# Altium footprint library PCB - LEADLESS - MISC - MURATA LXRW-0Y.PCBLIB: 1 footprints
Each footprint in its own frame and in the unit in brackets; x right, y up, seen from the top. Pads: shape width x height; smd on the part's side, far side on the other; paste and mask are expansions set on the pad; w line width, h text height; cw(c..) or ccw(c..) is an arc to the next point about the centre after c.
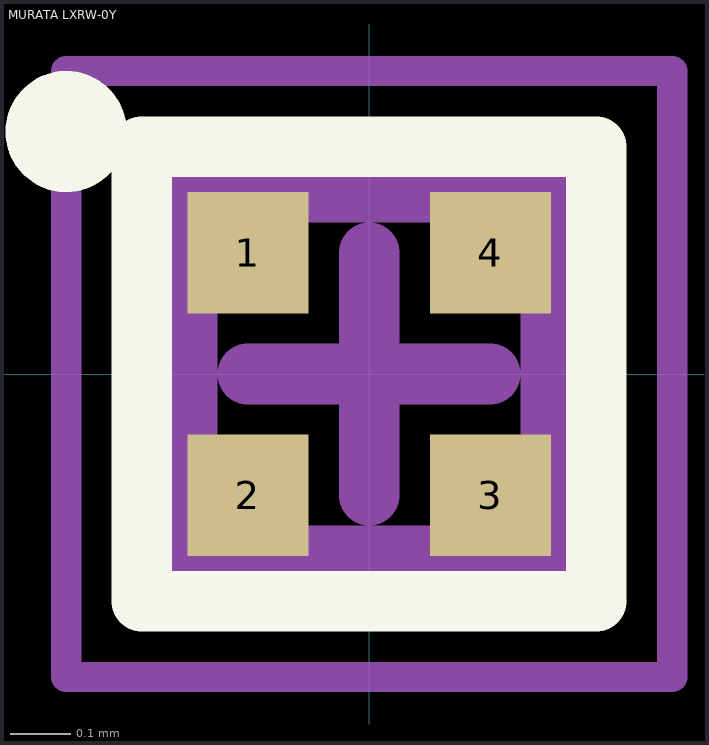
[diagram p0: the footprint, top view; thin cyan lines are the x and y axes]

## MURATA LXRW-0Y [mm] "LGA, 12-Leads, Body 2.00x2.20mm, Pitch 0.50mm, IPC Medium Density"
height 1.18
pads (4):
  rect 0.2x0.2 smd mask+0: 1(-0.2,0.2) 2(-0.2,-0.2) 3(0.2,-0.2) 4(0.2,0.2)
Top Overlay:
  circle w0.1: c-0.5,0.4 r0.05
  lines w0.1: -0.375,-0.375 0.375,-0.375 0.375,0.375 -0.375,0.375 -0.375,-0.375
Mechanical 13:
  lines w0.1: -0.3,-0.3 0.3,-0.3 0.3,0.3 -0.3,0.3 -0.3,-0.3
Mechanical 15:
  lines w0.05: -0.5,-0.5 0.5,-0.5 0.5,0.5 -0.5,0.5 -0.5,-0.5
  lines w0.1: -0.2,0 0.2,0 ; 0,-0.2 0,0.2
3D body: height 0.3, standoff 0, extent -0.3,-0.3 0.3,0.3